# Altium footprint library Connectors.PcbLib: 51 footprints (part 1 of 4)
Each footprint in its own frame and in the unit in brackets; x right, y up, seen from the top. Pads: shape width x height; smd on the part's side, far side on the other; paste and mask are expansions set on the pad; w line width, h text height; cw(c..) or ccw(c..) is an arc to the next point about the centre after c.
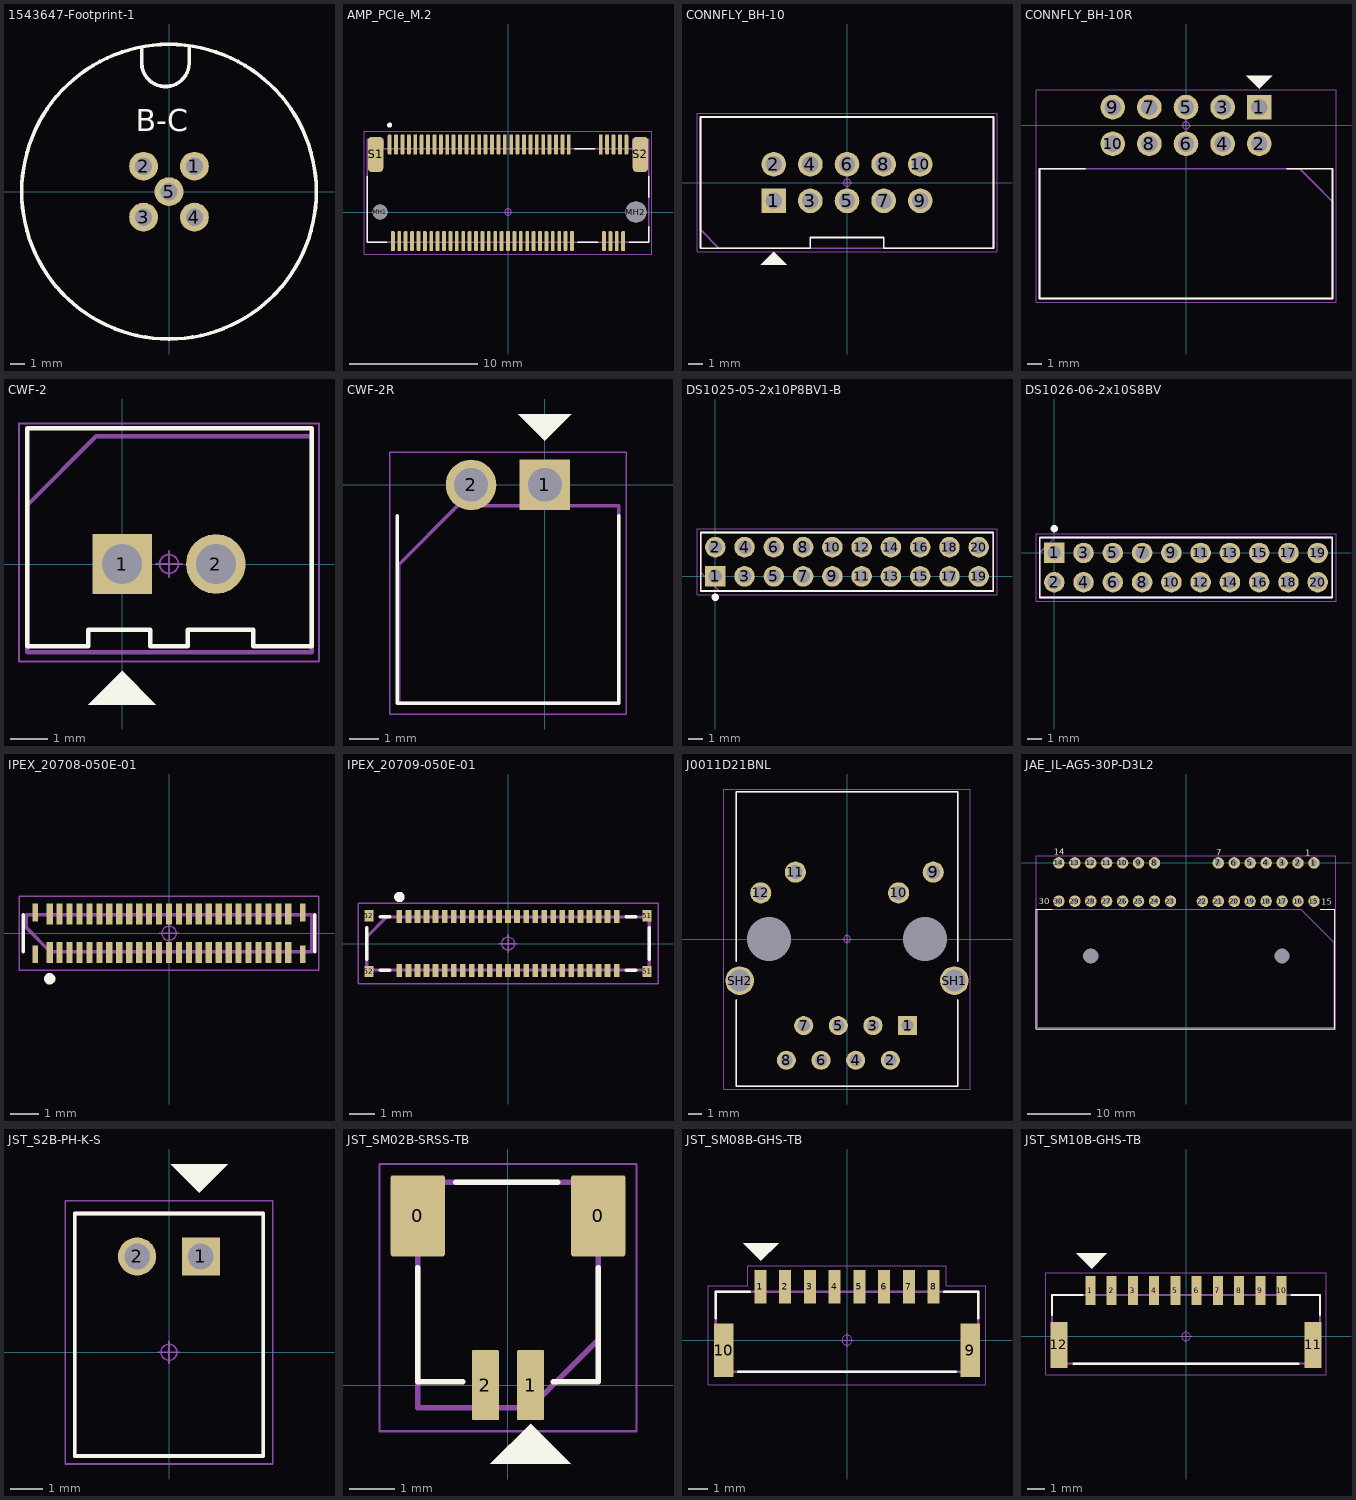
[diagram p0: the footprints below, top view; thin cyan lines are the x and y axes]

## 1543647-Footprint-1 [mm]
pads (5):
  round 2 hole 1.2: 1(1.768,1.768) 2(-1.768,1.768) 3(-1.768,-1.768) 4(1.768,-1.768) 5(0,0)
Top Overlay:
  circle w0.254: c0,0 r10.23
  lines w0.254: -1.9,10 -1.9,8.9 ccw(c-0.25,8.95) 1.4,8.9 1.4,10.1
  text "B-C" at -2.3,4.2 h1.52
3D body "1543647.stp": height 23, standoff -6, extent -13.89,-13.89 13.89,13.89

## AMP_PCIe_M.2 [mm]
pads (71):
  rrect50% 0.3x1.55 smd: 1(-9.25,5.275) 2(-9,-2.275) 3(-8.75,5.275) 4(-8.5,-2.275) 5(-8.25,5.275) 6(-8,-2.275) 7(-7.75,5.275) 8(-7.5,-2.275) 9(-7.25,5.275) 10(-7,-2.275) 11(-6.75,5.275) 12(-6.5,-2.275) 13(-6.25,5.275) 14(-6,-2.275) 15(-5.75,5.275) 16(-5.5,-2.275) 17(-5.25,5.275) 18(-5,-2.275) 19(-4.75,5.275) 20(-4.5,-2.275) 21(-4.25,5.275) 22(-4,-2.275) 23(-3.75,5.275) 24(-3.5,-2.275) 25(-3.25,5.275) 26(-3,-2.275) 27(-2.75,5.275) 28(-2.5,-2.275) 29(-2.25,5.275) 30(-2,-2.275) 31(-1.75,5.275) 32(-1.5,-2.275) 33(-1.25,5.275) 34(-1,-2.275) 35(-0.75,5.275) 36(-0.5,-2.275) 37(-0.25,5.275) 38(0,-2.275) 39(0.25,5.275) 40(0.5,-2.275) 41(0.75,5.275) 42(1,-2.275) 43(1.25,5.275) 44(1.5,-2.275) 45(1.75,5.275) 46(2,-2.275) 47(2.25,5.275) 48(2.5,-2.275) 49(2.75,5.275) 50(3,-2.275) 51(3.25,5.275) 52(3.5,-2.275) 53(3.75,5.275) 54(4,-2.275) 55(4.25,5.275) 56(4.5,-2.275) 57(4.75,5.275) 58(5,-2.275) 67(7.25,5.275) 68(7.5,-2.275) 69(7.75,5.275) 70(8,-2.275) 71(8.25,5.275) 72(8.5,-2.275) 73(8.75,5.275) 74(9,-2.275) 75(9.25,5.275)
  round 1.15 hole 1.15 unplated: MH1(-10,0)
  round 1.65 hole 1.65 unplated: MH2(10,0)
  rrect50% 1.2x2.75 smd: S1(-10.35,4.5) S2(10.35,4.5)
Top Overlay:
  circle w0.2: c-9.25,6.796 r0.1
  lines w0.127: -11,2.805 -11,-2.35 -9.47,-2.35 ; 5.213,4.95 6.776,4.95 ; 5.463,-2.35 7.027,-2.35 ; 9.47,-2.35 11,-2.35 11,-1.145 ; 11,1.145 11,2.805
Mechanical 11 (Mech11):
  circle w0.05: c0,0 r0.25
  lines w0.05: -0.35,0 0.35,0 ; 0,-0.35 0,0.35
  lines w0.12: -11,-2.35 11,-2.35 11,5.7 9.75,5.7 9.75,4.95 -9.75,4.95 -9.75,5.7 -11,5.7 -11,-2.35
  text ".Designator" at -4.506,-0.452 h2
Mechanical 15 (Mech15):
  lines w0.05: -11.25,-3.3 -11.25,6.3 11.25,6.3 11.25,-3.3 -11.25,-3.3
3D body "step_temp.STEP": height 4.2, standoff -0.57, extent -11,-2.85 11,5.7

## CONNFLY_BH-10 [mm] "BH-10 (DS1013-10S) (IDC-10MS), Вилка на плату прямая 10pin 2.54мм"
pads (10):
  rect 1.71x1.71 hole 1.14: 1(-5.08,-1.27)
  round 1.71 hole 1.14: 2(-5.08,1.27) 3(-2.54,-1.27) 4(-2.54,1.27) 5(0,-1.27) 6(0,1.27) 7(2.54,-1.27) 8(2.54,1.27) 9(5.08,-1.27) 10(5.08,1.27)
Top Overlay:
  region: -5.08,-4.8 -5.977,-5.697 -4.183,-5.697
  lines w0.12: -10.15,-4.55 -2.54,-4.55 -2.54,-3.81 2.54,-3.81 2.54,-4.55 10.15,-4.55 10.15,4.55 -10.15,4.55 -10.15,-4.55
Bottom Courtyard:
  lines w0.12: -10.15,-3.28 -10.15,4.55 10.15,4.55 10.15,-4.55 -8.88,-4.55 -10.15,-3.28
  text ".Designator" at -5.465,-0.669 h3
Mechanical 6:
  circle w0.05: c0,0 r0.25
  lines w0.05: -0.35,0 0.35,0 ; 0,-0.35 0,0.35 ; -10.4,-4.8 10.4,-4.8 10.4,4.8 -10.4,4.8 -10.4,-4.8
3D body "BH-10.step": height 9.14, standoff -3, extent -10.15,-4.45 10.21,4.75

## CONNFLY_BH-10R [mm] "BH-10R (DS1013-10R) (IDC-10MR), Вилка на плату угловая 10pin"
pads (10):
  rect 1.71x1.71 hole 1.14: 1(5.08,1.27)
  round 1.71 hole 1.14: 2(5.08,-1.27) 3(2.54,1.27) 4(2.54,-1.27) 5(0,1.27) 6(0,-1.27) 7(-2.54,1.27) 8(-2.54,-1.27) 9(-5.08,1.27) 10(-5.08,-1.27)
Top Overlay:
  region: 5.08,2.54 5.977,3.437 4.183,3.437
  lines w0.12: -7,-3 -10.15,-3 -10.15,-12 10.15,-12 10.15,-3 7,-3
Bottom Courtyard:
  lines w0.12: -10.15,-12 -10.15,-3 7.88,-3 8.88,-4 10.15,-5.27 10.15,-12 -10.15,-12
  text ".Designator" at -5.465,-8.169 h3
Mechanical 6:
  circle w0.05: c0,0 r0.25
  lines w0.05: -0.35,0 0.35,0 ; 0,-0.35 0,0.35 ; -10.4,-12.25 -10.4,2.475 10.4,2.475 10.4,-12.25 -10.4,-12.25
3D body "BH-10R.STEP": height 9, standoff -2.9, extent -10.15,-12.065 10.15,1.495

## CWF-2 [mm] "CWF-2 (DS1069-2 M)"
pads (2):
  rect 1.59x1.59 hole 1.06: 1(0,0)
  round 1.59 hole 1.06: 2(2.5,0)
Top Overlay:
  region: 0,-2.853 -0.897,-3.75 0.897,-3.75
  lines w0.12: -2.525,-2.2 -0.897,-2.2 -0.897,-1.75 0.75,-1.75 0.75,-2.2 1.75,-2.2 1.75,-1.75 3.5,-1.75 3.5,-2.2 5.05,-2.2 5.05,3.616 -2.525,3.616 -2.525,-2.2
Mechanical 11:
  lines w0.12: -2.525,-2.355 5.05,-2.355 5.05,3.405 -0.695,3.405 -2.525,1.575 -2.525,-2.355
  text ".Designator" at -4.215,-0.669 h3
Bottom Courtyard:
  circle w0.05: c1.25,0 r0.25
  lines w0.05: 0.9,0 1.6,0 ; 1.25,-0.35 1.25,0.35 ; -2.75,-2.605 5.25,-2.605 5.25,3.75 -2.75,3.75 -2.75,-2.605
3D body "User Library-CWF-2.step": height 7, standoff -3.5, extent -2.5,-2.2 5,3.55

## CWF-2R [mm] "CWF-2R (DS1069-2 MR)"
pads (2):
  rect 1.71x1.71 hole 1.14: 1(0,0)
  round 1.71 hole 1.14: 2(-2.5,0)
Top Overlay:
  region: 0,1.5 0.897,2.397 -0.897,2.397
  lines w0.12: -5,-1.04 -5,-7.39 2.5,-7.39 2.5,-1.04
Mechanical 11:
  lines w0.12: -4.95,-7.39 -4.95,-2.7 -2.95,-0.7 2.5,-0.7 2.5,-7.39 -4.95,-7.39
  text ".Designator" at -4.893,-4.446 h2
Bottom Courtyard:
  circle w0.05: c0,0 r0.25
  lines w0.05: -0.35,0 0.35,0 ; 0,-0.35 0,0.35 ; -5.25,-7.75 2.75,-7.75 2.75,1.11 -5.25,1.11 -5.25,-7.75
3D body "User Library-DS1069-2 MR (CWF-2 R).step": height 5.75, standoff -3.4, extent -5,-7.32 2.4,0.32

## DS1025-05-2x10P8BV1-B [mm] "Разъем штыревой; вилка; прямой; шаг 2 мм; количество контактов 2х10; вертикальный; монтаж в отверстия; высота изолятора 2 мм; штыри 4/2.8 мм; 1.5 А; 20 мОм; 600 В AC (1 мин) / Тип Разъем , Род разъёма Вилка , Монтаж Сквозные отверстия , Количество контактов"
pads (20):
  rect 1.4x1.4 hole 0.93 paste-2539.97: 1(0,0)
  round 1.4 hole 0.93 paste-2539.97: 2(0,2) 3(2,0) 4(2,2) 5(4,0) 6(4,2) 7(6,0) 8(6,2) 9(8,0) 10(8,2) 11(10,0) 12(10,2) 13(12,0) 14(12,2) 15(14,0) 16(14,2) 17(16,0) 18(16,2) 19(18,0) 20(18,2)
Top Overlay:
  circle w0.25: c0,-1.43 r0.125
  lines w0.12: -1,-1 19,-1 19,3 -1,3 -1,-1
Mechanical 11 (Mech11):
  lines w0.12: -1,0.27 -1,3 19,3 19,-1 0.27,-1 -1,0.27
  text ".Designator" at 6.731,0.762 h1
Mechanical 15:
  lines w0.025: -1,-1 19,-1 19,3 -1,3 -1,-1
Mechanical 15 (Mech15):
  circle w0.05: c0,0 r0.25
  lines w0.05: -0.35,0 0.35,0 ; 0,-0.35 0,0.35 ; -1.25,-1.25 19.25,-1.25 19.25,3.25 -1.25,3.25 -1.25,-1.25
3D body "HDRV20W55P200_10X2_2000X400H600.STEP": height 6, standoff -2.3, extent -1,-1 19,3

## DS1026-06-2x10S8BV [mm] "Разъем штыревой; розетка; прямой; шаг 2.0 мм; количество контактов 2x10; вертикальный; монтаж в отверстия; высота изолятора 4.3 мм; 1.5 А; 20 мОм; 500 В AC (1 мин) / Тип Разъем , Род разъёма Розетка , Монтаж Сквозные отверстия , Количество контактов 20 , Ша"
pads (20):
  rect 1.4x1.4 hole 0.93 paste-2539.97: 1(0,0)
  round 1.4 hole 0.93 paste-2539.97: 2(0,-2) 3(2,0) 4(2,-2) 5(4,0) 6(4,-2) 7(6,0) 8(6,-2) 9(8,0) 10(8,-2) 11(10,0) 12(10,-2) 13(12,0) 14(12,-2) 15(14,0) 16(14,-2) 17(16,0) 18(16,-2) 19(18,0) 20(18,-2)
Top Overlay:
  circle w0.25: c-0.001,1.66 r0.125
  lines w0.12: -1,-3.05 19,-3.05 19,1.05 -1,1.05 -1,-3.05
Mechanical 11 (Mech11):
  lines w0.12: -1,-3.05 19,-3.05 19,1.05 0.05,1.05 -1,0 -1,-3.05
  text ".Designator" at 6.764,-1.176 h1
Mechanical 15:
  lines w0.025: -1,-3.05 19,-3.05 19,1.05 -1,1.05 -1,-3.05
Mechanical 15 (Mech15):
  circle w0.05: c0,-2 r0.25
  lines w0.05: -0.35,-2 0.35,-2 ; 0,-2.35 0,-1.65 ; -1.25,-3.3 19.25,-3.3 19.25,1.3 -1.25,1.3 -1.25,-3.3
3D body "RHDRV20W55P200_10X2_2000X410H430.STEP": height 4.3, standoff -2, extent -1,-3.05 19,1.05

## IPEX_20708-050E-01 [mm] "50 Position Connector Plug, Outer Shroud Contacts Surface Mount Gold"
pads (54):
  rrect10% 0.22x0.745 smd paste-1 mask+0: 1(-4.2,-0.677) 2(-4.2,0.677) 3(-3.85,-0.677) 4(-3.85,0.677) 5(-3.5,-0.677) 6(-3.5,0.677) 7(-3.15,-0.677) 8(-3.15,0.677) 9(-2.8,-0.677) 10(-2.8,0.677) 11(-2.45,-0.677) 12(-2.45,0.677) 13(-2.1,-0.677) 14(-2.1,0.677) 15(-1.75,-0.677) 16(-1.75,0.677) 17(-1.4,-0.677) 18(-1.4,0.677) 19(-1.05,-0.677) 20(-1.05,0.677) 21(-0.7,-0.677) 22(-0.7,0.677) 23(-0.35,-0.677) 24(-0.35,0.677) 25(0,-0.677) 26(0,0.677) 27(0.35,-0.677) 28(0.35,0.677) 29(0.7,-0.677) 30(0.7,0.677) 31(1.05,-0.677) 32(1.05,0.677) 33(1.4,-0.677) 34(1.4,0.677) 35(1.75,-0.677) 36(1.75,0.677) 37(2.1,-0.677) 38(2.1,0.677) 39(2.45,-0.677) 40(2.45,0.677) 41(2.8,-0.677) 42(2.8,0.677) 43(3.15,-0.677) 44(3.15,0.677) 45(3.5,-0.677) 46(3.5,0.677) 47(3.85,-0.677) 48(3.85,0.677) 49(4.2,-0.677) 50(4.2,0.677)
  rrect10% 0.2x0.63 smd paste-1 mask+0: 51(4.71,-0.735) 51(4.71,0.735) 52(-4.71,-0.735) 52(-4.71,0.735)
Top Overlay:
  circle w0.2: c-4.2,-1.6 r0.1
  lines w0.127: -5.13,-0.65 -5.13,0.65 ; 5.13,-0.65 5.13,0.65
Top Paste:
  drawing of 54 lines, arcs and shapes, not listed
Top Solder:
  drawing of 54 lines, arcs and shapes, not listed
Mechanical 11 (Mech11):
  lines w0.127: -5.03,0.204 -4.176,-0.65 5.03,-0.65 5.03,0.65 -5.03,0.65 -5.03,0.204
  text ".Designator" at -5.465,-0.669 h3
Mechanical 15 (Mech15):
  circle w0.05: c0,0 r0.25
  lines w0.05: -0.35,0 0.35,0 ; 0,-0.35 0,0.35 ; -5.28,-1.3 -5.28,1.3 5.28,1.3 5.28,-1.3 -5.28,-1.3
3D body "20708-050EC PLUG ASSY STEP R1.STEP": height 0.56, standoff 0, extent -5.03,-0.9 5.03,0.9

## IPEX_20709-050E-01 [mm] "50 Position Connector Receptacle, Center Strip Contacts Surface Mount Gold"
pads (54):
  rrect10% 0.22x0.51 smd paste-1 mask+0: 1(-4.2,1.045) 2(-4.2,-1.045) 3(-3.85,1.045) 4(-3.85,-1.045) 5(-3.5,1.045) 6(-3.5,-1.045) 7(-3.15,1.045) 8(-3.15,-1.045) 9(-2.8,1.045) 10(-2.8,-1.045) 11(-2.45,1.045) 12(-2.45,-1.045) 13(-2.1,1.045) 14(-2.1,-1.045) 15(-1.75,1.045) 16(-1.75,-1.045) 17(-1.4,1.045) 18(-1.4,-1.045) 19(-1.05,1.045) 20(-1.05,-1.045) 21(-0.7,1.045) 22(-0.7,-1.045) 23(-0.35,1.045) 24(-0.35,-1.045) 25(0,1.045) 26(0,-1.045) 27(0.35,1.045) 28(0.35,-1.045) 29(0.7,1.045) 30(0.7,-1.045) 31(1.05,1.045) 32(1.05,-1.045) 33(1.4,1.045) 34(1.4,-1.045) 35(1.75,1.045) 36(1.75,-1.045) 37(2.1,1.045) 38(2.1,-1.045) 39(2.45,1.045) 40(2.45,-1.045) 41(2.8,1.045) 42(2.8,-1.045) 43(3.15,1.045) 44(3.15,-1.045) 45(3.5,1.045) 46(3.5,-1.045) 47(3.85,1.045) 48(3.85,-1.045) 49(4.2,1.045) 50(4.2,-1.045)
  rrect10% 0.35x0.44 smd paste-1 mask+0: 51(5.375,-1.08) 51(5.375,1.08) 52(-5.375,-1.08) 52(-5.375,1.08)
Top Overlay:
  circle w0.2: c-4.2,1.8 r0.1
  lines w0.127: -5.46,-0.61 -5.46,0.61 ; -4.95,-1.03 -4.56,-1.03 ; -4.95,1.03 -4.56,1.03 ; 4.56,-1.03 4.95,-1.03 ; 4.56,1.03 4.95,1.03 ; 5.46,-0.61 5.46,0.61
Top Paste:
  drawing of 54 lines, arcs and shapes, not listed
Top Solder:
  drawing of 54 lines, arcs and shapes, not listed
Mechanical 11 (Mech11):
  lines w0.12: -5.46,-1.03 5.46,-1.03 5.46,1.03 -4.685,1.03 -5.46,0.255 -5.46,-1.03
  text ".Designator" at -5.465,-0.669 h3
Mechanical 15 (Mech15):
  circle w0.05: c0,0 r0.25
  lines w0.05: -0.35,0 0.35,0 ; 0,-0.35 0,0.35 ; -5.8,-1.55 -5.8,1.55 5.8,1.55 5.8,-1.55 -5.8,-1.55
3D body "20709-050EC RECE ASSY STEP R1.STEP": height 0.67, standoff 0, extent -5.46,-1.15 5.46,1.15

## J0011D21BNL [mm] "RJ45 CONNECTOR, JACK, 8P8C, CAT5/6, THT"
pads (16):
  rect 1.4x1.4 hole 0.89: 1(4.445,-6.35)
  round 1.4 hole 0.89: 2(3.175,-8.89) 3(1.905,-6.35) 4(0.635,-8.89) 5(-0.635,-6.35) 6(-1.905,-8.89) 7(-3.175,-6.35) 8(-4.445,-8.89)
  round 1.55 hole 1.02: 9(6.325,4.9) 10(3.785,3.38) 11(-3.785,4.9) 12(-6.325,3.38)
  round 0 hole 3.2 unplated: MH1(5.715,0) MH2(-5.715,0)
  round 2.1 hole 1.6: SH1(7.875,-3.05) SH2(-7.875,-3.05)
Top Overlay:
  lines w0.12: -8.13,-4.477 -8.13,-10.8 8.13,-10.8 8.13,-4.477 ; -8.13,-1.623 -8.13,10.79 8.13,10.79 8.13,-1.623
Mechanical 11 (Mech11):
  lines w0.12: -8.135,-4.479 -8.135,-10.802 8.125,-10.802 8.125,-4.479 ; -8.135,-1.625 -8.135,10.788 8.125,10.788 8.125,-1.625
  text ".Designator" at -4.506,-0.452 h2
Mechanical 15 (Mech15):
  circle w0.05: c0,0 r0.25
  lines w0.05: -0.35,0 0.35,0 ; 0,-0.35 0,0.35 ; -9.025,-11 9.025,-11 9.025,11 -9.025,11 -9.025,-11
3D body "J0011D21BNL.stp": height 16.19, standoff -3.4, extent -10.691,-10.86 10.691,10.722

## JAE_IL-AG5-30P-D3L2 [mm]
pads (32):
  round 0 hole 2.4 unplated: 0(-15,-14.6) 0(15,-14.6)
  round 1.8 hole 1: 1(20,0) 2(17.5,0) 3(15,0) 4(12.5,0) 5(10,0) 6(7.5,0) 7(5,0) 8(-5,0) 9(-7.5,0) 10(-10,0) 11(-12.5,0) 12(-15,0) 13(-17.5,0) 14(-20,0) 15(20,-6) 16(17.5,-6) 17(15,-6) 18(12.5,-6) 19(10,-6) 20(7.5,-6) 21(5,-6) 22(2.5,-6) 23(-2.5,-6) 24(-5,-6) 25(-7.5,-6) 26(-10,-6) 27(-12.5,-6) 28(-15,-6) 29(-17.5,-6) 30(-20,-6)
Top Overlay:
  lines w0.12: -21,-7.25 -23.5,-7.25 -23.5,-26 23.25,-26 23.25,-7.25 21,-7.25
  text "1" at 18.629,1.13 h1
  text "7" at 4.647,1.18 h1
  text "14" at -20.819,1.255 h1
  text "30" at -23.173,-6.445 h1
  text "15" at 21.102,-6.545 h1
Mechanical 11 (Mech11):
  lines w0.12: -23.3,-25.775 23.175,-25.775 23.175,-12.475 17.95,-7.25 -23.3,-7.25 -23.3,-25.775
  text ".Designator" at -18.354,-21.072 h3
Mechanical 15 (Mech15):
  lines w0.05: -23.575,-26.1 23.45,-26.1 23.45,0.3 23.45,1.15 20,1.15 -23.575,1.15 -23.575,-26 -23.575,-26.1
3D body "K3D-IL-AG5-30P-D3L2-R5 JAE Connector Division Proprietary.STEP": height 15.6, standoff -2.9, extent -23.3,-25.825 23.2,0.295

## JST_S2B-PH-K-S [mm]
pads (2):
  rect 1.2x1.2 hole 0.8: 1(1,3)
  round 1.2 hole 0.8: 2(-1,3)
Top Overlay:
  region: 0.948,5 1.845,5.897 0.051,5.897
  lines w0.12: -2.95,-3.25 2.95,-3.25 2.95,4.35 -2.95,4.35 -2.95,-3.25
Mechanical 11 (Mech11):
  lines w0.12: -2.95,-3.25 -2.95,4.35 2.95,4.35 2.95,-3.25 -2.95,-3.25
  text ".Designator" at -2.253,-0.226 h1
Mechanical 15 (Mech15):
  circle w0.05: c0,0 r0.25
  lines w0.05: -0.35,0 0.35,0 ; 0,-0.35 0,0.35 ; -3.25,-3.5 3.25,-3.5 3.25,4.75 -3.25,4.75 -3.25,-3.5
3D body "step_temp.STEP": height 4.8, standoff -3.38, extent -2.95,-3.25 2.95,4.35

## JST_SM02B-SRSS-TB [mm] "JST 1mm pitch 2pin"
pads (4):
  rrect8% 1.2x1.8 smd: 0(-2,3.75) 0(2,3.75)
  rrect10% 0.6x1.55 smd: 1(0.5,0) 2(-0.5,0)
Top Overlay:
  region: 0.5,-0.853 -0.397,-1.75 1.397,-1.75
  lines w0.12: -2,2.6 -2,0.071 -1,0.071 ; -1.156,4.5 1.1,4.5 ; 1,0.071 2,0.071 2,2.6
Mechanical 11 (Mech11):
  lines w0.12: -2,-0.5 -2,4.5 2,4.5 2,1 0.5,-0.5 -2,-0.5
  text ".Designator" at -4.511,1.171 h1
Mechanical 15 (Mech15):
  lines w0.05: -2.85,-1.025 -2.85,2.925 -2.85,4.9 1.9,4.9 2.85,4.9 2.85,4.6 2.85,-1.025 0.75,-1.025 -2.85,-1.025
3D body "SM02B-SRSS-TB.STEP": height 3.01, standoff 0.05, extent -2,-0.455 2,4.495

## JST_SM08B-GHS-TB [mm]
pads (10):
  rect 0.6x1.7 smd: 1(-4.375,2.7) 2(-3.125,2.7) 3(-1.875,2.7) 4(-0.625,2.7) 5(0.625,2.7) 6(1.875,2.7) 7(3.125,2.7) 8(4.375,2.7)
  rect 1x2.7 smd: 9(6.225,-0.5) 10(-6.225,-0.5)
Top Overlay:
  region: -4.352,4 -3.455,4.897 -5.249,4.897
  lines w0.12: -6.625,1.1 -6.625,2.45 -4.9,2.45 ; -5.5,-1.6 5.5,-1.6 ; 4.9,2.45 6.625,2.45 6.625,1.1
Mechanical 11 (Mech11):
  lines w0.12: -6.625,-1.6 6.625,-1.6 6.625,2.45 -6.625,2.45 -6.625,-1.6
  text ".Designator" at -4.511,-0.829 h1
Mechanical 15 (Mech15):
  circle w0.05: c0,0 r0.25
  lines w0.05: -0.35,0 0.35,0 ; 0,-0.35 0,0.35 ; -7,-2.25 -5.475,-2.25 5.475,-2.25 7,-2.25 7,2.75 5,2.75 5,3.75 -5,3.75 -5,2.75 -7,2.75 -7,-2.25
3D body "step_temp.STEP": height 4.25, standoff 0, extent -6.625,-1.625 6.625,3.225

## JST_SM10B-GHS-TB [mm]
pads (12):
  rect 0.6x1.7 smd: 1(-5.625,2.7) 2(-4.375,2.7) 3(-3.125,2.7) 4(-1.875,2.7) 5(-0.625,2.7) 6(0.625,2.7) 7(1.875,2.7) 8(3.125,2.7) 9(4.375,2.7) 10(5.625,2.7)
  rect 1x2.7 smd: 11(7.475,-0.5) 12(-7.475,-0.5)
Top Overlay:
  region: -5.552,4 -4.655,4.897 -6.449,4.897
  lines w0.127: -7.875,1.27 -7.875,2.45 -6.1,2.45 ; -6.6,-1.6 6.6,-1.6 ; 6.2,2.45 7.875,2.45 7.875,1.28
Mechanical 11 (Mech11):
  lines w0.12: -7.875,-1.6 -7.875,2.45 7.875,2.45 7.875,-1.6 -7.875,-1.6
  text ".Designator" at -4.511,-0.829 h1
Mechanical 15 (Mech15):
  circle w0.05: c0,0 r0.25
  lines w0.05: -0.35,0 0.35,0 ; 0,-0.35 0,0.35 ; -8.25,-2.25 -8.25,3.75 8.25,3.75 8.25,-2.25 -8.25,-2.25
3D body "step_temp.STEP": height 4.25, standoff 0, extent -7.875,-1.55 7.875,3.3